# Altium footprint library PcbCorrect(25_12_2025).PcbLib: 27 footprints (part 2 of 2)
Each footprint in its own frame and in the unit in brackets; x right, y up, seen from the top. Pads: shape width x height; smd on the part's side, far side on the other; paste and mask are expansions set on the pad; w line width, h text height; cw(c..) or ccw(c..) is an arc to the next point about the centre after c.
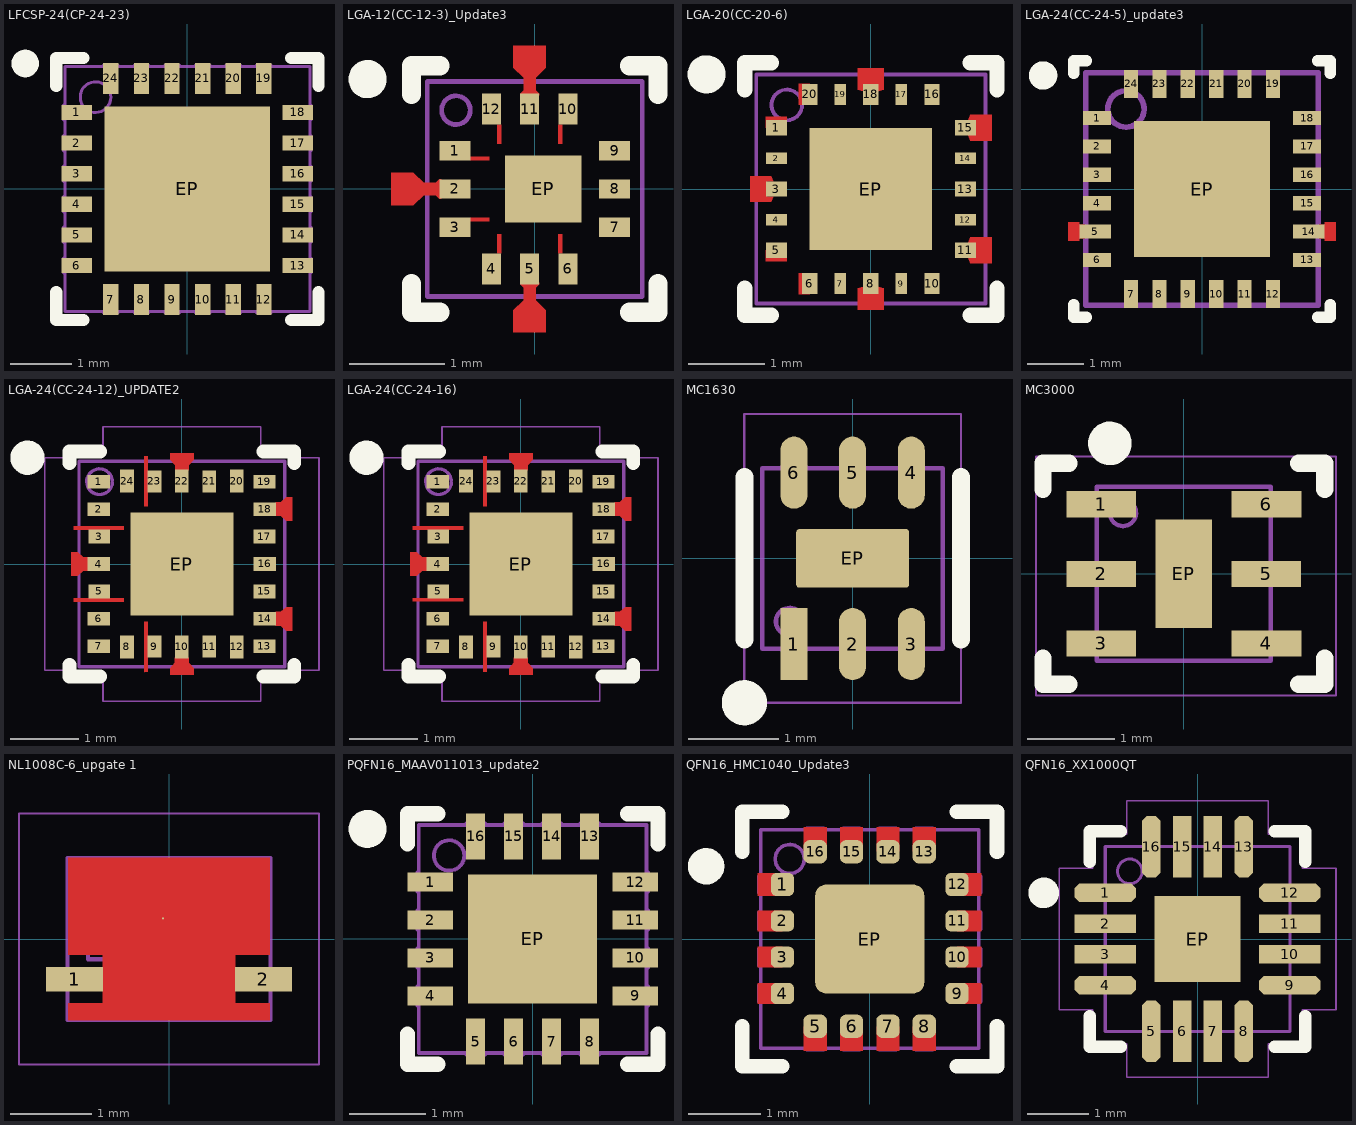
[diagram p1: the footprints below, top view; thin cyan lines are the x and y axes]

## LFCSP-24(CP-24-23) [mm] "QFN, 24-Leads, Body 4x4mm, Pitch 0.50mm, Thermal Pad 2.70x2.70mm. Compliant to JEDEC standards MO-220-WGGD-6"
height 0.75
pads (25):
  rect 0.5x0.25 smd mask+0.05: 1(-1.805,1.25) 2(-1.805,0.75) 3(-1.805,0.25) 4(-1.805,-0.25) 5(-1.805,-0.75) 6(-1.805,-1.25) 13(1.805,-1.25) 14(1.805,-0.75) 15(1.805,-0.25) 16(1.805,0.25) 17(1.805,0.75) 18(1.805,1.25)
  rect 0.25x0.5 smd mask+0.05: 7(-1.25,-1.805) 8(-0.75,-1.805) 9(-0.25,-1.805) 10(0.25,-1.805) 11(0.75,-1.805) 12(1.25,-1.805) 19(1.25,1.805) 20(0.75,1.805) 21(0.25,1.805) 22(-0.25,1.805) 23(-0.75,1.805) 24(-1.25,1.805)
  rect 2.7x2.7 smd paste-5 mask+0.03: EP(0,0)
Top Overlay:
  circle w0.25: c-2.65,2.05 r0.1
  lines w0.2: -2.14,-1.686 -2.14,-2.141 -1.695,-2.141 ; -2.14,1.686 -2.14,2.141 -1.695,2.141 ; 1.695,-2.141 2.14,-2.141 2.14,-1.686 ; 1.695,2.141 2.14,2.141 2.14,1.686
Top Paste:
  rectangle: -0.6,0.1 -0.1,0.6
  rectangle: 0.1,0.1 0.6,0.6
  rectangle: -0.6,-0.6 -0.1,-0.1
  rectangle: 0.1,-0.6 0.6,-0.1
  rectangle: -0.6,0.8 -0.1,1.3
  rectangle: 0.1,0.8 0.6,1.3
  rectangle: -0.6,-1.3 -0.1,-0.8
  rectangle: 0.1,-1.3 0.6,-0.8
  rectangle: 0.8,0.1 1.3,0.6
  rectangle: 0.8,-0.6 1.3,-0.1
  rectangle: 0.8,0.8 1.3,1.3
  rectangle: 0.8,-1.3 1.3,-0.8
  rectangle: -1.3,0.1 -0.8,0.6
  rectangle: -1.3,-0.6 -0.8,-0.1
  rectangle: -1.3,0.8 -0.8,1.3
  rectangle: -1.3,-1.3 -0.8,-0.8
  region: -1.125,-2.02 -1.375,-2.02 -1.375,-2.105 -1.125,-2.105
  region: -0.625,-2.02 -0.875,-2.02 -0.875,-2.105 -0.625,-2.105
  region: -0.125,-2.02 -0.375,-2.02 -0.375,-2.105 -0.125,-2.105
  region: 0.375,-2.01 0.125,-2.01 0.125,-2.105 0.375,-2.105
  region: 0.875,-2.01 0.625,-2.01 0.625,-2.105 0.875,-2.105
  region: 1.375,-2.01 1.125,-2.01 1.125,-2.105 1.375,-2.105
  region: 2.02,-1.125 2.02,-1.375 2.105,-1.375 2.105,-1.125
  region: 2.055,-0.625 2.055,-0.875 2.105,-0.875 2.105,-0.625
  region: 2.01,-0.125 2.01,-0.375 2.105,-0.375 2.105,-0.125
  region: 2.02,0.375 2.02,0.125 2.105,0.125 2.105,0.375
  region: 2.01,0.875 2.01,0.625 2.105,0.625 2.105,0.875
  region: 2.02,1.375 2.02,1.125 2.105,1.125 2.105,1.375
  region: 1.125,2.02 1.375,2.02 1.375,2.105 1.125,2.105
  region: 0.625,2.02 0.875,2.02 0.875,2.105 0.625,2.105
  region: 0.125,2.02 0.375,2.02 0.375,2.105 0.125,2.105
  region: -0.375,2.02 -0.125,2.02 -0.125,2.105 -0.375,2.105
  region: -0.875,2.02 -0.625,2.02 -0.625,2.105 -0.875,2.105
  region: -1.375,2.02 -1.125,2.02 -1.125,2.105 -1.375,2.105
  region: -2.02,1.125 -2.02,1.375 -2.105,1.375 -2.105,1.125
  region: -2.01,0.625 -2.01,0.875 -2.105,0.875 -2.105,0.625
  region: -2.01,0.125 -2.01,0.375 -2.105,0.375 -2.105,0.125
  region: -2.02,-0.375 -2.02,-0.125 -2.105,-0.125 -2.105,-0.375
  region: -2.01,-0.875 -2.01,-0.625 -2.105,-0.625 -2.105,-0.875
  region: -2.02,-1.375 -2.02,-1.125 -2.105,-1.125 -2.105,-1.375
Top Solder:
  region: -2.104,0.575 -2.104,0.925 -2.15,0.925 -2.15,0.575
  region: -2.104,1.075 -2.104,1.425 -2.15,1.425 -2.15,1.075
  region: -2.104,0.075 -2.104,0.425 -2.15,0.425 -2.15,0.075
  region: -2.104,-0.425 -2.104,-0.075 -2.15,-0.075 -2.15,-0.425
  region: -2.104,-0.925 -2.104,-0.575 -2.15,-0.575 -2.15,-0.925
  region: 0.575,2.104 0.925,2.104 0.925,2.15 0.575,2.15
  region: 1.075,2.104 1.425,2.104 1.425,2.15 1.075,2.15
  region: 0.075,2.104 0.425,2.104 0.425,2.15 0.075,2.15
  region: -0.425,2.104 -0.075,2.104 -0.075,2.15 -0.425,2.15
  region: -0.925,2.104 -0.575,2.104 -0.575,2.15 -0.925,2.15
  region: 2.104,-0.575 2.104,-0.925 2.149,-0.925 2.15,-0.575
  region: 2.104,-1.075 2.104,-1.425 2.149,-1.425 2.15,-1.075
  region: 2.104,-0.075 2.104,-0.425 2.15,-0.425 2.15,-0.075
  region: 2.104,0.425 2.104,0.075 2.15,0.075 2.15,0.425
  region: 2.104,0.925 2.104,0.575 2.15,0.575 2.15,0.925
  region: -0.575,-2.104 -0.925,-2.104 -0.925,-2.15 -0.575,-2.15
  region: -1.075,-2.104 -1.425,-2.104 -1.425,-2.15 -1.075,-2.15
  region: -0.075,-2.104 -0.425,-2.104 -0.425,-2.15 -0.075,-2.15
  region: 0.425,-2.104 0.075,-2.104 0.075,-2.15 0.425,-2.15
  region: 0.925,-2.104 0.575,-2.104 0.575,-2.15 0.925,-2.15
  region: 1.425,-2.104 1.075,-2.104 1.075,-2.15 1.425,-2.15
  region: -2.104,-1.425 -2.104,-1.075 -2.15,-1.075 -2.15,-1.425
  region: -1.425,2.104 -1.075,2.104 -1.075,2.15 -1.425,2.15
  region: 2.104,1.425 2.104,1.075 2.15,1.075 2.15,1.425
Top Assembly:
  circle w0.05: c-1.5,1.5 r0.25
  lines w0.05: -2,-1.375 -2.02,-1.375 -2.02,-1.125 -2,-1.125 ; -2,-0.875 -2.02,-0.875 -2.02,-0.625 -2,-0.625 ; -2,-0.375 -2.02,-0.375 -2.02,-0.125 -2,-0.125 ; -2,0.125 -2.02,0.125 -2.02,0.375 -2,0.375 ; -2,0.625 -2.02,0.625 -2.02,0.875 -2,0.875 ; -2,1.125 -2.02,1.125 -2.02,1.375 -2,1.375 ; -1.375,-2 -1.375,-2.02 -1.125,-2.02 -1.125,-2 ; -1.375,2 -1.375,2.02 -1.125,2.02 -1.125,2 ; -0.875,-2 -0.875,-2.02 -0.625,-2.02 -0.625,-2 ; -0.875,2 -0.875,2.02 -0.625,2.02 -0.625,2 ; -0.375,-2 -0.375,-2.02 -0.125,-2.02 -0.125,-2 ; -0.375,2 -0.375,2.02 -0.125,2.02 -0.125,2 ; 0.125,-2 0.125,-2.02 0.375,-2.02 0.375,-2 ; 0.125,2 0.125,2.02 0.375,2.02 0.375,2 ; 0.625,-2 0.625,-2.02 0.875,-2.02 0.875,-2 ; 0.625,2 0.625,2.02 0.875,2.02 0.875,2 ; 1.125,-2 1.125,-2.02 1.375,-2.02 1.375,-2 ; 1.125,2 1.125,2.02 1.375,2.02 1.375,2 ; 2,-1.375 2.02,-1.375 2.02,-1.125 2,-1.125 ; 2,-0.875 2.02,-0.875 2.02,-0.625 2,-0.625 ; 2,-0.375 2.02,-0.375 2.02,-0.125 2,-0.125 ; 2,0.125 2.02,0.125 2.02,0.375 2,0.375 ; 2,0.625 2.02,0.625 2.02,0.875 2,0.875 ; 2,1.125 2.02,1.125 2.02,1.375 2,1.375 ; -2,-2 -2,2 2,2 2,-2 -2,-2
  text ".Designator" at -4.511,-0.453 h2
3D body "CP-24-23(LFCSP24).x_t": height 0.8, standoff 0, extent -2.02,-2.02 2.02,2.02

## LGA-12(CC-12-3)_Update3 [mm] "LGA, 12-Leads, Body 2.25x2.25mm, Pitch 0.40mm, Thermal Pad 0.7x0.8mm"
height 0.75
pads (13):
  rect 0.325x0.2 smd paste+0.02 mask+0.04: 1(-0.837,0.4) 2(-0.837,0) 3(-0.837,-0.4) 7(0.837,-0.4) 8(0.837,0) 9(0.837,0.4)
  rect 0.2x0.325 smd paste+0.02 mask+0.04: 4(-0.453,-0.837) 5(-0.053,-0.837) 6(0.347,-0.837) 10(0.347,0.837) 11(-0.053,0.837) 12(-0.453,0.837)
  rect 0.8x0.7 smd paste-5 mask+0.07: EP(0.09,0)
Top Layer:
  region: -1.036,0 -1.036,-0.063 -1.163,-0.063 -1.163,0
  region: -1.036,0 -1.036,0.063 -1.163,0.063 -1.163,0
  region: -1,0.1 -1.036,0.063 -1.163,0.063 -1.163,-0.063 -1.036,-0.063 -1,-0.1 -0.981,-0.1 -0.981,0.1
  region: -1.163,0.063 -1.27,0.17 -1.5,0.17 -1.5,-0.17 -1.27,-0.17 -1.163,-0.063
  region: 0.047,0.999 0.01,1.036 0.01,1.163 -0.116,1.163 -0.116,1.036 -0.153,0.999 -0.153,0.98 0.047,0.98
  region: 0.01,1.163 0.117,1.27 0.117,1.5 -0.223,1.5 -0.223,1.269 -0.116,1.163
  region: -0.153,-1 -0.116,-1.036 -0.116,-1.163 0.01,-1.163 0.01,-1.036 0.047,-1 0.047,-0.981 -0.153,-0.981
  region: -0.116,-1.163 -0.223,-1.27 -0.223,-1.5 0.117,-1.5 0.117,-1.27 0.01,-1.163
  pour cut-out: -0.393,-0.675 -0.353,-0.675 -0.353,-0.475 -0.393,-0.475
  pour cut-out: 0.287,-0.675 0.247,-0.675 0.247,-0.475 0.287,-0.475
  pour cut-out: -0.675,-0.34 -0.675,-0.3 -0.475,-0.3 -0.475,-0.34
  pour cut-out: -0.675,0.34 -0.675,0.3 -0.475,0.3 -0.475,0.34
  pour cut-out: -0.393,0.675 -0.353,0.675 -0.353,0.475 -0.393,0.475
  pour cut-out: 0.287,0.675 0.247,0.675 0.247,0.475 0.287,0.475
Top Overlay:
  circle w0.2: c-1.75,1.15 r0.1
  lines w0.2: -1.29,-0.99 -1.29,-1.29 -0.99,-1.29 ; -1.29,0.99 -1.29,1.29 -0.99,1.29 ; 0.99,-1.29 1.29,-1.29 1.29,-0.99 ; 0.99,1.29 1.29,1.29 1.29,0.99
Top Paste:
  region: 0.495,0.09 0.185,0.09 0.185,0.35 0.495,0.35
  region: 0.495,-0.09 0.185,-0.09 0.185,-0.35 0.495,-0.35
  region: -0.315,0.09 -0.005,0.09 -0.005,0.35 -0.315,0.35
  region: -0.31,-0.09 0,-0.09 0,-0.35 -0.31,-0.35
Top Solder:
  region: -0.313,1.036 -0.313,1.27 -0.593,1.27 -0.593,1.036
  region: 0.087,1.036 0.087,1.27 -0.193,1.27 -0.193,1.036
  region: 0.487,1.036 0.487,1.27 0.207,1.27 0.207,1.036
  region: 1.036,0.26 1.27,0.26 1.27,0.54 1.036,0.54
  region: 1.036,-0.14 1.27,-0.14 1.27,0.14 1.036,0.14
  region: 1.036,-0.54 1.27,-0.54 1.27,-0.26 1.036,-0.26
  region: 0.207,-1.036 0.207,-1.27 0.487,-1.27 0.487,-1.036
  region: -0.193,-1.036 -0.193,-1.27 0.087,-1.27 0.087,-1.036
  region: -0.593,-1.036 -0.593,-1.27 -0.313,-1.27 -0.313,-1.036
  region: -1.036,-0.26 -1.27,-0.26 -1.27,-0.54 -1.036,-0.54
  region: -1.036,0.14 -1.27,0.14 -1.27,-0.14 -1.036,-0.14
  region: -1.036,0.54 -1.27,0.54 -1.27,0.26 -1.036,0.26
Top Assembly:
  circle w0.05: c-0.825,0.825 r0.15
  lines w0.05: -1.125,-1.125 -1.125,1.125 1.125,1.125 1.125,-1.125 -1.125,-1.125
  text ".Designator" at -2.815,-0.283 h1.25
3D body "CC-12-3(LGA12).x_t": height 0.76, standoff 0, extent -1.125,-1.125 1.125,1.125

## LGA-20(CC-20-6) [mm] "LGA, 20-Leads, Body 3x3mm, Pitch 0.40mm, Thermal Pad 1.50x1.50mm"
height 0.96
pads (21):
  rect 0.275x0.2 smd paste+0.01 mask+0.05: 1(-1.237,0.8) 3(-1.237,0) 5(-1.237,-0.8) 11(1.237,-0.8) 13(1.237,0) 15(1.237,0.8)
  rect 0.275x0.15 smd paste+0.01 mask+0.05: 2(-1.237,0.4) 4(-1.237,-0.4) 12(1.237,-0.4) 14(1.237,0.4)
  rect 0.2x0.275 smd paste+0.01 mask+0.05: 6(-0.8,-1.237) 8(0,-1.237) 10(0.8,-1.237) 16(0.8,1.237) 18(0,1.237) 20(-0.8,1.237)
  rect 0.15x0.275 smd paste+0.01 mask+0.05: 7(-0.4,-1.237) 9(0.4,-1.237) 17(0.4,1.237) 19(-0.4,1.237)
  rect 1.6x1.6 smd paste-4 mask+0.05: EP(0,0)
Top Layer:
  region: 1.58,0.689 1.354,0.689 1.354,0.921 1.58,0.921
  region: 1.58,-0.911 1.354,-0.911 1.354,-0.679 1.58,-0.679
  region: -0.111,-1.58 -0.111,-1.354 0.121,-1.354 0.121,-1.58
  region: -1.58,0.111 -1.354,0.111 -1.354,-0.121 -1.58,-0.121
  region: -0.099,1.58 -0.099,1.277 -0.17,1.301 -0.17,1.58
  region: 0.111,1.58 0.111,1.354 -0.121,1.354 -0.121,1.58
  region: 0.099,1.58 0.099,1.277 0.17,1.301 0.17,1.58
  region: 1.58,0.899 1.277,0.899 1.301,0.97 1.58,0.97
  region: 1.58,0.701 1.277,0.701 1.301,0.63 1.58,0.63
  region: 1.58,-0.701 1.277,-0.701 1.301,-0.63 1.58,-0.63
  region: 1.58,-0.899 1.277,-0.899 1.301,-0.97 1.58,-0.97
  region: 0.099,-1.58 0.099,-1.277 0.17,-1.301 0.17,-1.58
  region: -0.099,-1.58 -0.099,-1.277 -0.17,-1.301 -0.17,-1.58
  region: -1.58,-0.099 -1.277,-0.099 -1.301,-0.17 -1.58,-0.17
  region: -1.58,0.099 -1.277,0.099 -1.301,0.17 -1.58,0.17
  region: -1.1,0.8 -1.375,0.8 -1.375,0.947 -1.1,0.947
  region: -1.099,-0.8 -1.375,-0.8 -1.374,-0.947 -1.1,-0.947
  region: -0.8,-1.375 -0.8,-1.099 -0.947,-1.1 -0.947,-1.374
  region: -0.8,1.099 -0.8,1.375 -0.947,1.374 -0.947,1.1
Top Overlay:
  circle w0.25: c-2.15,1.5 r0.125
  lines w0.2: -1.65,-1.3 -1.65,-1.65 -1.3,-1.65 ; -1.65,1.3 -1.65,1.65 -1.3,1.65 ; 1.3,-1.65 1.65,-1.65 1.65,-1.3 ; 1.3,1.65 1.65,1.65 1.65,1.3
Top Paste:
  drawing of 90 lines, arcs and shapes, not listed
Top Solder:
  region: -1.354,0.525 -1.354,0.275 -1.65,0.275 -1.65,0.525
  region: -1.354,-0.65 -1.354,-0.95 -1.65,-0.95 -1.65,-0.65
  region: -1.354,-0.275 -1.354,-0.525 -1.65,-0.525 -1.65,-0.275
  region: -0.95,-1.354 -0.65,-1.354 -0.65,-1.65 -0.95,-1.65
  region: -0.525,-1.354 -0.275,-1.354 -0.275,-1.65 -0.525,-1.65
  region: -0.15,-1.354 0.15,-1.354 0.15,-1.65 -0.15,-1.65
  region: 0.275,-1.354 0.525,-1.354 0.525,-1.65 0.275,-1.65
  region: 0.65,-1.354 0.95,-1.354 0.95,-1.65 0.65,-1.65
  region: -1.354,0.95 -1.354,0.65 -1.65,0.65 -1.65,0.95
  region: -1.65,0.95 -1.65,1.15 -1.35,1.15 -1.35,0.95
  region: -1.65,-0.95 -1.65,-1.15 -1.35,-1.15 -1.35,-0.95
  region: -0.932,-1.65 -1.132,-1.65 -1.132,-1.35 -0.932,-1.35
  region: -1.354,0.15 -1.354,-0.15 -1.65,-0.15 -1.65,0.15
  region: 1.354,-0.15 1.354,0.15 1.65,0.15 1.65,-0.15
  region: 1.354,-0.95 1.354,-0.65 1.65,-0.65 1.65,-0.95
  region: 1.354,-0.525 1.354,-0.275 1.65,-0.275 1.65,-0.525
  region: 1.354,0.275 1.354,0.525 1.65,0.525 1.65,0.275
  region: 1.354,0.65 1.354,0.95 1.65,0.95 1.65,0.65
  region: 0.15,1.354 -0.15,1.354 -0.15,1.65 0.15,1.65
  region: 0.95,1.354 0.65,1.354 0.65,1.65 0.95,1.65
  region: -0.65,1.354 -0.95,1.354 -0.95,1.65 -0.65,1.65
  region: -0.932,1.65 -1.132,1.65 -1.132,1.35 -0.932,1.35
  region: 0.525,1.354 0.275,1.354 0.275,1.65 0.525,1.65
  region: -0.275,1.354 -0.525,1.354 -0.525,1.65 -0.275,1.65
Top Assembly:
  circle w0.05: c-1.1,1.1 r0.2
  lines w0.05: -1.5,-1.5 1.5,-1.5 1.5,1.5 -1.5,1.5 -1.5,-1.5
  text ".Designator" at -4.511,-0.453 h2
3D body "CC-20-6(LGA20).x_t": height 0.86, standoff -0.01, extent -1.5,-1.5 1.5,1.5

## LGA-24(CC-24-5)_update3 [mm] "LGA, 24-Leads, Body 4x4mm, Pitch 0.50mm, Thermal Pad 2.50x2.50mm"
height 0.75
pads (25):
  rect 0.5x0.25 smd mask+0.05: 1(-1.85,1.25) 2(-1.85,0.75) 3(-1.85,0.25) 4(-1.85,-0.25) 6(-1.85,-1.25) 13(1.85,-1.25) 15(1.85,-0.25) 16(1.85,0.25) 17(1.85,0.75) 18(1.85,1.25)
  rect 0.56x0.25 smd paste-5 mask+0.05: 5(-1.88,-0.75) 14(1.88,-0.75)
  rect 0.25x0.5 smd mask+0.05: 7(-1.25,-1.85) 8(-0.75,-1.85) 9(-0.25,-1.85) 10(0.25,-1.85) 11(0.75,-1.85) 12(1.25,-1.85) 19(1.25,1.85) 20(0.75,1.85) 21(0.25,1.85) 22(-0.25,1.85) 23(-0.75,1.85) 24(-1.25,1.85)
  rect 2.4x2.4 smd paste-5: EP(0,0)
Top Layer:
  region: 2.18,-0.625 2.055,-0.625 2.055,-0.875 2.18,-0.875
  rectangle: -2.18,-0.875 -2.055,-0.625
  region: 2.36,-0.58 2.16,-0.58 2.16,-0.92 2.36,-0.92
  rectangle: -2.36,-0.92 -2.16,-0.58
Top Overlay:
  circle w0.25: c-2.8,2 r0.125
  lines w0.2: -2.26,-2.035 -2.26,-2.26 -2.035,-2.26 ; -2.26,2.035 -2.26,2.26 -2.035,2.26 ; 2.035,-2.26 2.26,-2.26 2.26,-2.035 ; 2.035,2.26 2.26,2.26 2.26,2.035
Top Paste:
  region: -1.375,2.2 -1.375,2.05 -1.125,2.05 -1.125,2.2
  region: -0.875,2.2 -0.875,2.05 -0.625,2.05 -0.625,2.2
  region: -0.375,2.2 -0.375,2.05 -0.125,2.05 -0.125,2.2
  region: 0.125,2.2 0.125,2.05 0.375,2.05 0.375,2.2
  region: 0.625,2.2 0.625,2.05 0.875,2.05 0.875,2.2
  region: 1.125,2.2 1.125,2.05 1.375,2.05 1.375,2.2
  region: 2.2,1.375 2.05,1.375 2.05,1.125 2.2,1.125
  region: 2.2,0.875 2.05,0.875 2.05,0.625 2.2,0.625
  region: 2.2,0.375 2.05,0.375 2.05,0.125 2.2,0.125
  region: 2.2,-0.125 2.05,-0.125 2.05,-0.375 2.2,-0.375
  region: 2.23,-0.625 2.08,-0.625 2.08,-0.875 2.23,-0.875
  region: 2.2,-1.125 2.05,-1.125 2.05,-1.375 2.2,-1.375
  region: 1.375,-2.2 1.375,-2.05 1.125,-2.05 1.125,-2.2
  region: 0.875,-2.2 0.875,-2.05 0.625,-2.05 0.625,-2.2
  region: 0.375,-2.2 0.375,-2.05 0.125,-2.05 0.125,-2.2
  region: -0.125,-2.2 -0.125,-2.05 -0.375,-2.05 -0.375,-2.2
  region: -0.125,-2.2 -0.125,-2.05 -0.375,-2.05 -0.375,-2.2
  region: -0.625,-2.2 -0.625,-2.05 -0.875,-2.05 -0.875,-2.2
  region: -1.125,-2.2 -1.125,-2.05 -1.375,-2.05 -1.375,-2.2
  rectangle: -2.2,-1.375 -2.05,-1.125
  rectangle: -2.23,-0.875 -2.08,-0.625
  rectangle: -2.2,-0.375 -2.05,-0.125
  rectangle: -2.2,0.125 -2.05,0.375
  rectangle: -2.2,0.625 -2.05,0.875
  rectangle: -2.2,1.125 -2.05,1.375
  rectangle: 0.5,0.5 1.1,1.1
  rectangle: -0.3,0.5 0.3,1.1
  rectangle: 0.5,-1.1 1.1,-0.5
  rectangle: -0.3,-1.1 0.3,-0.5
  rectangle: 0.5,-0.3 1.1,0.3
  rectangle: -0.3,-0.3 0.3,0.3
  region: -0.5,1.1 -1.1,1.1 -1.1,0.5 -0.5,0.5
  region: -0.5,-0.5 -1.1,-0.5 -1.1,-1.1 -0.5,-1.1
  region: -0.5,0.3 -1.1,0.3 -1.1,-0.3 -0.5,-0.3
  rectangle: -2.1,-0.375 -1.601,-0.126
  rectangle: -2.1,-0.875 -1.601,-0.626
  region: 2.1,-0.626 1.601,-0.626 1.601,-0.875 2.1,-0.875
Top Solder:
  region: -1.425,2.25 -1.425,2.114 -1.075,2.114 -1.075,2.25
  region: -0.925,2.25 -0.925,2.114 -0.575,2.114 -0.575,2.25
  region: -0.425,2.25 -0.425,2.114 -0.075,2.114 -0.075,2.25
  region: 0.075,2.25 0.075,2.114 0.425,2.114 0.425,2.25
  region: 0.575,2.25 0.575,2.114 0.925,2.114 0.925,2.25
  region: 1.075,2.25 1.075,2.114 1.425,2.114 1.425,2.25
  region: 2.25,1.425 2.114,1.425 2.114,1.075 2.25,1.075
  region: 2.25,0.925 2.114,0.925 2.114,0.575 2.25,0.575
  region: 2.25,0.425 2.114,0.425 2.114,0.075 2.25,0.075
  region: 2.25,-0.075 2.114,-0.075 2.114,-0.425 2.25,-0.425
  region: 2.28,-0.575 2.144,-0.575 2.144,-0.925 2.28,-0.925
  region: 2.25,-1.075 2.114,-1.075 2.114,-1.425 2.25,-1.425
  region: 1.425,-2.25 1.425,-2.114 1.075,-2.114 1.075,-2.25
  region: 0.925,-2.25 0.925,-2.114 0.575,-2.114 0.575,-2.25
  region: 0.425,-2.25 0.425,-2.114 0.075,-2.114 0.075,-2.25
  region: -0.075,-2.25 -0.075,-2.114 -0.425,-2.114 -0.425,-2.25
  region: -0.575,-2.25 -0.575,-2.114 -0.925,-2.114 -0.925,-2.25
  region: -1.075,-2.25 -1.075,-2.114 -1.425,-2.114 -1.425,-2.25
  rectangle: -2.25,-1.425 -2.114,-1.075
  rectangle: -2.28,-0.925 -2.144,-0.575
  rectangle: -2.25,-0.425 -2.114,-0.075
  rectangle: -2.25,0.075 -2.114,0.425
  rectangle: -2.25,0.575 -2.114,0.925
  rectangle: -2.25,1.075 -2.114,1.425
Top Assembly:
  lines w0.1: -1.021,1.436 ccw(c-1.34,1.41) -1.02,1.404 ; -2.05,-2.05 2.05,-2.05 2.05,2.05 -2.05,2.05 -2.05,-2.05
  text ".Designator" at -4.511,-0.453 h2
3D body "CC-24-5(LGA24).x_t": height 0.75, standoff -0.01, extent -2,-2 2,2

## LGA-24(CC-24-12)_UPDATE2 [mm] "LGA, 24-Leads, Body 3x3mm, Pitch 0.40mm, Thermal Pad 1.60x1.50mm"
height 0.738
pads (25):
  rect 0.33x0.2 smd mask+0.05: 1(-1.21,1.2) 2(-1.21,0.8) 4(-1.21,0) 6(-1.21,-0.8) 7(-1.21,-1.2) 14(1.21,-0.8) 16(1.21,0) 18(1.21,0.8)
  rect 0.32x0.2 smd mask+0.05: 3(-1.205,0.4) 5(-1.205,-0.4) 13(1.205,-1.2) 15(1.205,-0.4) 17(1.205,0.4) 19(1.205,1.2)
  rect 0.2x0.33 smd mask+0.05: 8(-0.8,-1.21) 10(0,-1.21) 12(0.8,-1.21) 20(0.8,1.21) 22(0,1.21) 24(-0.8,1.21)
  rect 0.2x0.32 smd mask+0.05: 9(-0.4,-1.205) 11(0.4,-1.205) 21(0.4,1.205) 23(-0.4,1.205)
  rect 1.5x1.5 smd paste-4 mask+0.1: EP(0,0)
Top Layer:
  region: -1.519,0.17 -1.439,0.1 -1.37,0.1 -1.37,-0.1 -1.439,-0.1 -1.519,-0.17 -1.613,-0.17 -1.613,0.17
  region: 0.17,1.519 0.1,1.439 0.1,1.37 -0.1,1.37 -0.1,1.439 -0.17,1.519 -0.17,1.613 0.17,1.613
  region: 1.519,0.63 1.439,0.7 1.37,0.7 1.37,0.9 1.439,0.9 1.519,0.97 1.613,0.97 1.613,0.63
  region: 1.519,-0.97 1.439,-0.9 1.37,-0.9 1.37,-0.7 1.439,-0.7 1.519,-0.63 1.613,-0.63 1.613,-0.97
  region: -0.17,-1.519 -0.1,-1.439 -0.1,-1.37 0.1,-1.37 0.1,-1.439 0.17,-1.519 0.17,-1.613 -0.17,-1.613
  region: -0.5,-0.845 -0.547,-0.845 -0.547,-1.575 -0.5,-1.575
  region: -0.845,-0.5 -0.845,-0.547 -1.575,-0.547 -1.575,-0.5
  region: -0.845,0.5 -0.845,0.547 -1.575,0.547 -1.575,0.5
  region: -0.5,0.845 -0.547,0.845 -0.547,1.575 -0.5,1.575
Top Overlay:
  circle w0.25: c-2.25,1.55 r0.125
  lines w0.2: -1.64,-1.474 -1.64,-1.64 -1.19,-1.64 ; -1.64,1.474 -1.64,1.64 -1.19,1.64 ; 1.19,-1.64 1.64,-1.64 1.64,-1.474 ; 1.19,1.64 1.64,1.64 1.64,1.474
Top Paste:
  rectangle: -0.7,0.1 -0.1,0.7
  rectangle: 0.1,0.1 0.7,0.7
  rectangle: -0.7,-0.7 -0.1,-0.1
  rectangle: 0.1,-0.7 0.7,-0.1
Top Assembly:
  lines w0.05: -1.014,1.221 ccw(c-1.2,1.2) -1.013,1.19 ; -1.5,-1.5 -1.5,1.5 1.5,1.5 1.5,-1.5 -1.5,-1.5
  text ".Designator" at -4.511,-0.453 h2
Top Courtyard:
  lines w0.025: -2,-1.55 -2,1.55 -1.7,1.55 -1.7,1.7 -1.15,1.7 -1.15,2 1.15,2 1.15,1.7 1.7,1.7 1.7,1.55 2,1.55 2,-1.55 1.7,-1.55 1.7,-1.7 1.15,-1.7 1.15,-2 -1.15,-2 -1.15,-1.7 -1.7,-1.7 -1.7,-1.55 -2,-1.55
3D body "CC-24-12(LGA24).x_t": height 0.74, standoff -0.01, extent -1.5,-1.5 1.5,1.5

## LGA-24(CC-24-16) [mm] "LGA, 24-Leads, Body 3x3mm, Pitch 0.40mm, Thermal Pad 1.50x1.50mm"
height 0.696
pads (25):
  rect 0.33x0.2 smd mask+0.05: 1(-1.21,1.2) 2(-1.21,0.8) 4(-1.21,0) 6(-1.21,-0.8) 7(-1.21,-1.2) 14(1.21,-0.8) 16(1.21,0) 18(1.21,0.8)
  rect 0.32x0.2 smd mask+0.05: 3(-1.205,0.4) 5(-1.205,-0.4) 13(1.205,-1.2) 15(1.205,-0.4) 17(1.205,0.4) 19(1.205,1.2)
  rect 0.2x0.33 smd mask+0.05: 8(-0.8,-1.21) 10(0,-1.21) 12(0.8,-1.21) 20(0.8,1.21) 22(0,1.21) 24(-0.8,1.21)
  rect 0.2x0.32 smd mask+0.05: 9(-0.4,-1.205) 11(0.4,-1.205) 21(0.4,1.205) 23(-0.4,1.205)
  rect 1.5x1.5 smd paste-4 mask+0.1: EP(0,0)
Top Layer:
  region: -0.17,-1.519 -0.1,-1.439 -0.1,-1.37 0.1,-1.37 0.1,-1.439 0.17,-1.519 0.17,-1.613 -0.17,-1.613
  region: 1.519,-0.97 1.439,-0.9 1.37,-0.9 1.37,-0.7 1.439,-0.7 1.519,-0.63 1.613,-0.63 1.613,-0.97
  region: 1.519,0.63 1.439,0.7 1.37,0.7 1.37,0.9 1.439,0.9 1.519,0.97 1.613,0.97 1.613,0.63
  region: 0.17,1.519 0.1,1.439 0.1,1.37 -0.1,1.37 -0.1,1.439 -0.17,1.519 -0.17,1.613 0.17,1.613
  region: -1.519,0.17 -1.439,0.1 -1.37,0.1 -1.37,-0.1 -1.439,-0.1 -1.519,-0.17 -1.613,-0.17 -1.613,0.17
  region: -0.84,-0.5 -1.575,-0.5 -1.575,-0.542 -1.422,-0.542 -0.84,-0.542
  region: -0.84,0.5 -1.575,0.5 -1.575,0.549 -0.84,0.549
  region: -0.5,0.84 -0.5,1.575 -0.549,1.575 -0.549,0.84
  region: -0.5,-0.84 -0.5,-1.575 -0.549,-1.575 -0.549,-0.84
Top Overlay:
  circle w0.25: c-2.25,1.55 r0.125
  lines w0.2: -1.64,-1.474 -1.64,-1.64 -1.19,-1.64 ; -1.64,1.474 -1.64,1.64 -1.19,1.64 ; 1.19,-1.64 1.64,-1.64 1.64,-1.474 ; 1.19,1.64 1.64,1.64 1.64,1.474
Top Paste:
  rectangle: 0.1,-0.7 0.7,-0.1
  rectangle: -0.7,-0.7 -0.1,-0.1
  rectangle: 0.1,0.1 0.7,0.7
  rectangle: -0.7,0.1 -0.1,0.7
  region: -1.375,0.9 -1.375,0.7 -1.475,0.7 -1.475,0.9
  region: -1.375,1.3 -1.375,1.1 -1.475,1.1 -1.475,1.3
  region: -1.365,0.5 -1.365,0.3 -1.465,0.3 -1.465,0.5
  region: -1.37,0.1 -1.37,-0.1 -1.47,-0.1 -1.47,0.1
  region: -1.365,-0.3 -1.365,-0.5 -1.465,-0.5 -1.465,-0.3
  region: -1.375,-0.7 -1.375,-0.9 -1.475,-0.9 -1.475,-0.7
  region: -1.375,-1.1 -1.375,-1.3 -1.475,-1.3 -1.475,-1.1
  region: -0.9,-1.375 -0.7,-1.375 -0.7,-1.475 -0.9,-1.475
  region: -0.5,-1.365 -0.3,-1.365 -0.3,-1.465 -0.5,-1.465
  region: -0.1,-1.375 0.1,-1.375 0.1,-1.475 -0.1,-1.475
  region: 0.3,-1.365 0.5,-1.365 0.5,-1.465 0.3,-1.465
  region: 0.7,-1.375 0.9,-1.375 0.9,-1.475 0.7,-1.475
  region: 1.365,-1.3 1.365,-1.1 1.465,-1.1 1.465,-1.3
  region: 1.375,-0.9 1.375,-0.7 1.475,-0.7 1.475,-0.9
  region: 1.365,-0.5 1.365,-0.3 1.465,-0.3 1.465,-0.5
  region: 1.375,-0.1 1.375,0.1 1.475,0.1 1.475,-0.1
  region: 1.365,0.3 1.365,0.5 1.465,0.5 1.465,0.3
  region: 1.375,0.7 1.375,0.9 1.475,0.9 1.475,0.7
  region: 1.365,1.1 1.365,1.3 1.465,1.3 1.465,1.1
  region: 0.9,1.375 0.7,1.375 0.7,1.475 0.9,1.475
  region: 0.5,1.365 0.3,1.365 0.3,1.465 0.5,1.465
  region: 0.1,1.375 -0.1,1.375 -0.1,1.475 0.1,1.475
  region: -0.3,1.365 -0.5,1.365 -0.5,1.465 -0.3,1.465
  region: -0.7,1.375 -0.9,1.375 -0.9,1.475 -0.7,1.475
Top Solder:
  region: -0.55,-1.41 -0.55,-1.65 -0.25,-1.65 -0.25,-1.41
  region: -0.95,-1.415 -0.95,-1.65 -0.65,-1.65 -0.65,-1.415
  region: -1.415,-1.05 -1.65,-1.05 -1.65,-1.35 -1.415,-1.35
  region: -1.415,-0.65 -1.65,-0.65 -1.65,-0.95 -1.415,-0.95
  region: -1.415,1.35 -1.65,1.35 -1.65,1.05 -1.415,1.05
  region: -0.15,-1.424 -0.15,-1.65 0.15,-1.65 0.15,-1.424
  region: 0.25,-1.41 0.25,-1.65 0.55,-1.65 0.55,-1.41
  region: 0.65,-1.415 0.65,-1.65 0.95,-1.65 0.95,-1.415
  region: -1.424,0.15 -1.65,0.15 -1.65,-0.15 -1.424,-0.15
  region: -1.41,0.55 -1.65,0.55 -1.65,0.25 -1.41,0.25
  region: -1.41,-0.25 -1.65,-0.25 -1.65,-0.55 -1.41,-0.55
  region: -1.415,0.95 -1.65,0.95 -1.65,0.65 -1.415,0.65
  region: 1.424,0.15 1.65,0.15 1.65,-0.15 1.424,-0.15
  region: 1.41,0.55 1.65,0.55 1.65,0.25 1.41,0.25
  region: 1.41,-0.25 1.65,-0.25 1.65,-0.55 1.41,-0.55
  region: 1.415,0.95 1.65,0.95 1.65,0.65 1.415,0.65
  region: 1.415,-0.65 1.65,-0.65 1.65,-0.95 1.415,-0.95
  region: -0.15,1.424 -0.15,1.65 0.15,1.65 0.15,1.424
  region: -0.55,1.41 -0.55,1.65 -0.25,1.65 -0.25,1.41
  region: 0.25,1.41 0.25,1.65 0.55,1.65 0.55,1.41
  region: -0.95,1.415 -0.95,1.65 -0.65,1.65 -0.65,1.415
  region: 0.65,1.415 0.65,1.65 0.95,1.65 0.95,1.415
  region: 1.415,1.35 1.65,1.35 1.65,1.05 1.415,1.05
  region: 1.415,-1.05 1.65,-1.05 1.65,-1.35 1.415,-1.35
Top Assembly:
  lines w0.05: -1.014,1.221 ccw(c-1.2,1.2) -1.013,1.19 ; -1.5,-1.5 1.5,-1.5 1.5,1.5 -1.5,1.5 -1.5,-1.5
  text ".Designator" at -4.261,-0.353 h2
Top Courtyard:
  lines w0.025: -2,-1.55 -2,1.55 -1.7,1.55 -1.7,1.7 -1.15,1.7 -1.15,2 1.15,2 1.15,1.7 1.7,1.7 1.7,1.55 2,1.55 2,-1.55 1.7,-1.55 1.7,-1.7 1.15,-1.7 1.15,-2 -1.15,-2 -1.15,-1.7 -1.7,-1.7 -1.7,-1.55 -2,-1.55
3D body "CC-24-16(LGA24).x_t": height 0.7, standoff -0.01, extent -1.5,-1.5 1.5,1.5

## MC1630 [mm] "MC1630 Minicircuits case style"
height 0.8
pads (7):
  rect 0.3x0.8 smd paste+0 mask+0.05: 1(-0.65,-0.95)
  oval 0.3x0.8 smd paste+0 mask+0.05: 2(0,-0.95) 3(0.65,-0.95) 4(0.65,0.95) 5(0,0.95) 6(-0.65,0.95)
  rrect10% 1.25x0.65 smd mask+0.05: EP(0,0)
Top Overlay:
  circle w0.25: c-1.2,-1.6 r0.125
  lines w0.2: -1.2,-0.9 -1.2,0.9 ; 1.2,-0.9 1.2,0.9
Top Solder:
  rectangle: -1,-1.4 -0.85,-0.5
  region: 1,-0.5 0.65,-0.5 0.65,-1.4 1,-1.4
  region: 1,1.4 0.65,1.4 0.65,0.5 1,0.5
  rectangle: -1,0.5 -0.65,1.4
Top Assembly:
  circle w0.05: c-0.7,-0.7 r0.15
  lines w0.05: -0.775,-1 -0.775,-1.025 -0.525,-1.025 -0.525,-1 ; -0.775,1 -0.775,1.025 -0.525,1.025 -0.525,1 ; -0.125,-1 -0.125,-1.025 0.125,-1.025 0.125,-1 ; -0.125,1 -0.125,1.025 0.125,1.025 0.125,1 ; 0.525,-1 0.525,-1.025 0.775,-1.025 0.775,-1 ; 0.525,1 0.525,1.025 0.775,1.025 0.775,1 ; -1,-1 -1,1 1,1 1,-1 -1,-1
  text ".Designator" at -2.704,-0.271 h1.2
Top Courtyard:
  lines w0.025: -1.2,-1.6 -1.2,1.6 1.2,1.6 1.2,-1.6 -1.2,-1.6
3D body "MC1630_X_T.x_t": height 0.85, standoff 0, extent -1,-1.025 1,1.025

## MC3000 [mm] "Mini-Circuits MC3000 Case Style"
height 1
pads (7):
  rect 0.8x0.3 smd paste-0.023 mask+0.05: 1(-0.95,0.8) 2(-0.95,0) 3(-0.95,-0.8) 4(0.95,-0.8) 5(0.95,0) 6(0.95,0.8)
  rect 0.65x1.25 smd paste-0.045 mask+0.092: EP(0,0)
Top Overlay:
  circle w0.25: c-0.85,1.5 r0.125
  lines w0.2: -1.62,-0.97 -1.62,-1.27 -1.32,-1.27 ; -1.62,0.97 -1.62,1.27 -1.32,1.27 ; 1.32,-1.27 1.62,-1.27 1.62,-0.97 ; 1.32,1.27 1.62,1.27 1.62,0.97
Top Solder:
  rectangle: 0.5,0.47 1.4,0.6
  rectangle: -1.401,0.47 -0.501,0.6
  rectangle: -1.401,-0.6 -0.501,-0.47
  rectangle: 0.5,-0.6 1.4,-0.47
Top Assembly:
  lines w0.05: -0.55,0.718 ccw(c-0.7,0.7) -0.549,0.696 ; -1,-1 -1,0 -1,1 0,1 1,1 1,0 1,-1 0,-1 -1,-1
  text ".Designator" at -3.378,-0.339 h1.5
Top Courtyard:
  lines w0.025: -1.7,-1.4 -1.7,1.35 1.75,1.35 1.75,-1.4 -1.7,-1.4
3D body "MC3000.x_t": height 1.05, standoff 0, extent -1.02,-1 1.02,1

## NL1008C-6_upgate 1 [mm] "Mini-Circuits NL1008C-6 Case Style"
height 0.705
pads (3):
  rect 0.7x0.3 smd paste-0.02 mask+0: 1(-1.165,-0.495) 2(1.165,-0.495)
  round 0.025 smd paste-5 mask-5: 3(-0.075,0.255)
Top Layer:
  region: -1.245,-1.005 1.245,-1.005 1.245,-0.795 0.6,-0.795 0.6,-0.195 1.245,-0.195 1.245,1.005 -1.245,1.005 -1.245,-0.195 -0.6,-0.195 -0.6,-0.795 -1.245,-0.795
  pour cut-out: -0.6,-0.195 -0.6,-0.795 -0.815,-0.795 -0.815,-0.195
  pour cut-out: 0.6,-0.195 0.6,-0.795 0.815,-0.795 0.815,-0.195
Top Paste:
  region: -0.55,-0.8 -1.25,-0.8 -1.25,-1.02 -0.55,-1.02
  rectangle: 0.555,-1.02 1.25,-0.8
  rectangle: -0.35,0.45 0.35,0.95
  region: -0.55,0.95 -1.25,0.95 -1.25,0.45 -0.55,0.45
  rectangle: -0.35,-0.95 0.35,-0.45
  rectangle: -0.35,-0.25 0.35,0.25
  rectangle: 0.55,-0.15 1.25,0.25
  region: 1.25,0.95 0.55,0.95 0.55,0.45 1.25,0.45
  region: -0.55,0.25 -1.25,0.25 -1.25,-0.15 -0.55,-0.15
Top Solder:
  rectangle: 0.895,-0.645 1.395,-0.345
  rectangle: -1.345,-0.245 1.345,1.105
  rectangle: -0.695,-1.105 0.695,-0.195
  rectangle: -1.345,-1.105 -0.675,-0.745
  region: 1.345,-0.745 0.675,-0.745 0.675,-1.105 1.345,-1.105
  pour cut-out: -1.775,1.255 -1.775,-1.255 1.775,-1.255 1.775,1.255
Top Assembly:
  lines w0.05: -1.25,-1 1.25,-1 1.25,1 -1.25,1 -1.25,-1 ; -1,-0.25 -1,0.25 -0.3,0.25 -0.3,-0.25 -1,-0.25
  text ".Designator" at -1.752,-0.226 h1
Top Courtyard:
  lines w0.025: -1.85,-1.55 1.85,-1.55 1.85,1.55 -1.85,1.55 -1.85,-1.55
3D body "NL1008C-6.x_t": height 0.71, standoff 0, extent -1.25,-1 1.25,1

## PQFN16_MAAV011013_update2 [mm]
height 0.9
pads (17):
  rect 0.6x0.25 smd mask+0.05: 1(-1.35,0.75) 2(-1.35,0.25) 3(-1.35,-0.25) 4(-1.35,-0.75) 9(1.35,-0.75) 10(1.35,-0.25) 11(1.35,0.25) 12(1.35,0.75)
  rect 0.25x0.6 smd mask+0.05: 5(-0.75,-1.35) 6(-0.25,-1.35) 7(0.25,-1.35) 8(0.75,-1.35) 13(0.75,1.35) 14(0.25,1.35) 15(-0.25,1.35) 16(-0.75,1.35)
  rect 1.7x1.7 smd paste-10 mask+0.06: EP(0,0)
Top Overlay:
  circle w0.25: c-2.175,1.45 r0.125
  lines w0.2: -1.65,-1.25 -1.65,-1.65 -1.25,-1.65 ; -1.65,1.25 -1.65,1.65 -1.25,1.65 ; 1.25,-1.65 1.65,-1.65 1.65,-1.25 ; 1.25,1.65 1.65,1.65 1.65,1.25
Top Paste:
  region: 0.225,-0.225 -0.225,-0.225 -0.225,0.225 0.225,0.225
  region: -0.425,-0.225 -0.825,-0.225 -0.825,0.225 -0.425,0.225
  region: 0.225,0.425 0.225,0.825 -0.225,0.825 -0.225,0.425
  region: 0.225,-0.425 0.225,-0.825 -0.225,-0.825 -0.225,-0.425
  region: -0.425,0.425 -0.425,0.825 -0.825,0.825 -0.825,0.425
  region: -0.425,-0.425 -0.425,-0.825 -0.825,-0.825 -0.825,-0.425
  region: 0.425,-0.225 0.825,-0.225 0.825,0.225 0.425,0.225
  region: 0.425,-0.425 0.425,-0.825 0.825,-0.825 0.825,-0.425
  region: 0.425,0.425 0.425,0.825 0.825,0.825 0.825,0.425
Top Assembly:
  circle w0.05: c-1.1,1.1 r0.2
  lines w0.05: -1.5,-0.875 -1.52,-0.875 -1.52,-0.625 -1.5,-0.625 ; -1.5,-0.375 -1.52,-0.375 -1.52,-0.125 -1.5,-0.125 ; -1.5,0.125 -1.52,0.125 -1.52,0.375 -1.5,0.375 ; -1.5,0.625 -1.52,0.625 -1.52,0.875 -1.5,0.875 ; -0.875,-1.5 -0.875,-1.52 -0.625,-1.52 -0.625,-1.5 ; -0.875,1.5 -0.875,1.52 -0.625,1.52 -0.625,1.5 ; -0.375,-1.5 -0.375,-1.52 -0.125,-1.52 -0.125,-1.5 ; -0.375,1.5 -0.375,1.52 -0.125,1.52 -0.125,1.5 ; 0.125,-1.5 0.125,-1.52 0.375,-1.52 0.375,-1.5 ; 0.125,1.5 0.125,1.52 0.375,1.52 0.375,1.5 ; 0.625,-1.5 0.625,-1.52 0.875,-1.52 0.875,-1.5 ; 0.625,1.5 0.625,1.52 0.875,1.52 0.875,1.5 ; 1.5,-0.875 1.52,-0.875 1.52,-0.625 1.5,-0.625 ; 1.5,-0.375 1.52,-0.375 1.52,-0.125 1.5,-0.125 ; 1.5,0.125 1.52,0.125 1.52,0.375 1.5,0.375 ; 1.5,0.625 1.52,0.625 1.52,0.875 1.5,0.875 ; -1.5,-1.5 1.5,-1.5 1.5,1.5 -1.5,1.5 -1.5,-1.5
  text ".Designator" at -2.815,-0.283 h1.25
3D body "MAAV-011013.x_t": height 0.9, standoff -0.02, extent -1.52,-1.52 1.52,1.52

## QFN16_HMC1040_Update3 [mm] "QFN16 3mm x 3mm, 0.5mm pitch"
height 0.9
pads (17):
  rrect50% 0.32x0.32 smd mask+0.05: 1(-1.2,0.75) 5(-0.75,-1.2) 6(-0.25,-1.2) 7(0.25,-1.2) 8(0.75,-1.2) 12(1.2,0.75) 13(0.75,1.2) 14(0.25,1.2) 15(-0.25,1.2) 16(-0.75,1.2)
  rrect50% 0.32x0.29 smd mask+0.05: 2(-1.2,0.25) 3(-1.2,-0.25) 4(-1.2,-0.75) 9(1.2,-0.75) 10(1.2,-0.25) 11(1.2,0.25)
  rrect20% 1.5x1.5 smd paste-5: EP(0,0)
Top Layer:
  region: 1.54,-0.605 1.2,-0.605 1.2,-0.895 1.54,-0.895
  region: 1.54,-0.105 1.2,-0.105 1.2,-0.395 1.54,-0.395
  region: 1.54,0.395 1.2,0.395 1.2,0.105 1.54,0.105
  rectangle: -1.54,-0.895 -1.2,-0.605
  rectangle: -1.54,-0.395 -1.2,-0.105
  rectangle: -1.54,0.105 -1.2,0.395
  rectangle: -1.54,0.59 -1.2,0.91
  region: 0.59,1.54 0.59,1.2 0.91,1.2 0.91,1.54
  region: 0.09,1.54 0.09,1.2 0.41,1.2 0.41,1.54
  region: -0.41,1.54 -0.41,1.2 -0.09,1.2 -0.09,1.54
  region: -0.91,1.54 -0.91,1.2 -0.59,1.2 -0.59,1.54
  region: 1.54,0.91 1.2,0.91 1.2,0.59 1.54,0.59
  region: -0.59,-1.54 -0.59,-1.2 -0.91,-1.2 -0.91,-1.54
  region: -0.09,-1.54 -0.09,-1.2 -0.41,-1.2 -0.41,-1.54
  region: 0.41,-1.54 0.41,-1.2 0.09,-1.2 0.09,-1.54
  region: 0.91,-1.54 0.91,-1.2 0.59,-1.2 0.59,-1.54
Top Overlay:
  circle w0.25: c-2.25,1 r0.125
  lines w0.2: -1.75,-1.2 -1.75,-1.75 -1.2,-1.75 ; -1.75,1.2 -1.75,1.75 -1.2,1.75 ; 1.2,-1.75 1.75,-1.75 1.75,-1.2 ; 1.2,1.75 1.75,1.75 1.75,1.2
Top Paste:
  region: 1.54,0.395 1.19,0.395 1.19,0.105 1.54,0.105
  region: -0.1,-0.1 -0.7,-0.1 -0.7,-0.7 -0.1,-0.7
  region: 0.7,-0.1 0.1,-0.1 0.1,-0.7 0.7,-0.7
  region: -0.1,0.7 -0.7,0.7 -0.7,0.1 -0.1,0.1
  region: 0.7,0.7 0.1,0.7 0.1,0.1 0.7,0.1
  rectangle: -1.54,0.105 -1.19,0.395
  rectangle: -1.54,-0.395 -1.19,-0.105
  rectangle: -1.54,-0.895 -1.19,-0.605
  region: -0.59,-1.55 -0.59,-1.2 -0.91,-1.2 -0.91,-1.55
  region: -0.09,-1.55 -0.09,-1.2 -0.41,-1.2 -0.41,-1.55
  region: 0.41,-1.55 0.41,-1.2 0.09,-1.2 0.09,-1.55
  region: 0.91,-1.55 0.91,-1.2 0.59,-1.2 0.59,-1.55
  region: 1.54,-0.105 1.19,-0.105 1.19,-0.395 1.54,-0.395
  region: 1.55,0.91 1.2,0.91 1.2,0.59 1.55,0.59
  rectangle: -1.55,0.59 -1.2,0.91
  region: 0.09,1.55 0.09,1.2 0.41,1.2 0.41,1.55
  region: -0.41,1.55 -0.41,1.2 -0.09,1.2 -0.09,1.55
  region: -0.91,1.55 -0.91,1.2 -0.59,1.2 -0.59,1.55
  region: 0.59,1.55 0.59,1.2 0.91,1.2 0.91,1.55
  region: 1.55,0.91 1.2,0.91 1.2,0.59 1.55,0.59
  region: 1.54,-0.605 1.19,-0.605 1.19,-0.895 1.54,-0.895
  region: -0.09,-1.55 -0.09,-1.2 -0.41,-1.2 -0.41,-1.55
  region: 0.41,-1.55 0.41,-1.2 0.09,-1.2 0.09,-1.55
  region: 0.91,-1.55 0.91,-1.2 0.59,-1.2 0.59,-1.55
  region: -0.59,-1.55 -0.59,-1.2 -0.91,-1.2 -0.91,-1.55
Top Solder:
  region: 0,0.21 -0.82,0.21 -0.82,-0.21 0,-0.21
  region: -1.2,0.96 -1.7,0.96 -1.7,0.54 -1.2,0.54
  region: -1.2,0.445 -1.7,0.445 -1.7,0.055 -1.2,0.055
  region: -1.2,-0.055 -1.7,-0.055 -1.7,-0.445 -1.2,-0.445
  region: -1.2,-0.555 -1.7,-0.555 -1.7,-0.945 -1.2,-0.945
  region: -0.96,-1.2 -0.96,-1.7 -0.54,-1.7 -0.54,-1.2
  region: -0.46,-1.2 -0.46,-1.7 -0.04,-1.7 -0.04,-1.2
  region: 0.04,-1.2 0.04,-1.7 0.46,-1.7 0.46,-1.2
  region: 0.54,-1.2 0.54,-1.7 0.96,-1.7 0.96,-1.2
  rectangle: 1.2,-0.945 1.7,-0.555
  rectangle: 1.2,-0.445 1.7,-0.055
  rectangle: 1.2,0.055 1.7,0.445
  rectangle: 1.2,0.54 1.7,0.96
  region: 0.96,1.2 0.96,1.7 0.54,1.7 0.54,1.2
  region: 0.46,1.2 0.46,1.7 0.04,1.7 0.04,1.2
  region: -0.04,1.2 -0.04,1.7 -0.46,1.7 -0.46,1.2
  region: -0.54,1.2 -0.54,1.7 -0.96,1.7 -0.96,1.2
Top Assembly:
  circle w0.05: c-1.1,1.1 r0.2
  lines w0.05: -1.5,-0.865 -1.525,-0.865 -1.525,-0.635 -1.5,-0.635 ; -1.5,-0.365 -1.525,-0.365 -1.525,-0.135 -1.5,-0.135 ; -1.5,0.135 -1.525,0.135 -1.525,0.365 -1.5,0.365 ; -1.5,0.635 -1.525,0.635 -1.525,0.865 -1.5,0.865 ; -0.865,-1.5 -0.865,-1.525 -0.635,-1.525 -0.635,-1.5 ; -0.865,1.5 -0.865,1.525 -0.635,1.525 -0.635,1.5 ; -0.365,-1.5 -0.365,-1.525 -0.135,-1.525 -0.135,-1.5 ; -0.365,1.5 -0.365,1.525 -0.135,1.525 -0.135,1.5 ; 0.135,-1.5 0.135,-1.525 0.365,-1.525 0.365,-1.5 ; 0.135,1.5 0.135,1.525 0.365,1.525 0.365,1.5 ; 0.635,-1.5 0.635,-1.525 0.865,-1.525 0.865,-1.5 ; 0.635,1.5 0.635,1.525 0.865,1.525 0.865,1.5 ; 1.5,-0.865 1.525,-0.865 1.525,-0.635 1.5,-0.635 ; 1.5,-0.365 1.525,-0.365 1.525,-0.135 1.5,-0.135 ; 1.5,0.135 1.525,0.135 1.525,0.365 1.5,0.365 ; 1.5,0.635 1.525,0.635 1.525,0.865 1.5,0.865 ; -1.5,-1.5 -1.5,1.5 1.5,1.5 1.5,-1.5 -1.5,-1.5
  text ".Designator" at -3.378,-0.324 h1.5
3D body "QFN16_HMC1040.x_t": height 0.95, standoff 0, extent -1.525,-1.525 1.525,1.525

## QFN16_XX1000QT [mm] "QFN16 3mm x 3mm, 0.5mm pitch"
height 0.9
pads (17):
  oct 1x0.3 smd mask+0.04: 1(-1.5,0.75) 4(-1.5,-0.75) 9(1.5,-0.75) 12(1.5,0.75)
  rect 1x0.3 smd mask+0.04: 2(-1.5,0.25) 3(-1.5,-0.25) 10(1.5,-0.25) 11(1.5,0.25)
  oct 0.3x1 smd mask+0.04: 5(-0.75,-1.5) 8(0.75,-1.5) 13(0.75,1.5) 16(-0.75,1.5)
  rect 0.3x1 smd mask+0.04: 6(-0.25,-1.5) 7(0.25,-1.5) 14(0.25,1.5) 15(-0.25,1.5)
  rect 1.4x1.4 smd paste-5 mask+0.06: EP(0,0)
Top Overlay:
  circle w0.25: c-2.5,0.75 r0.125
  lines w0.2: -1.75,-1.25 -1.75,-1.75 -1.25,-1.75 ; -1.75,1.25 -1.75,1.75 -1.25,1.75 ; 1.25,-1.75 1.75,-1.75 1.75,-1.25 ; 1.25,1.75 1.75,1.75 1.75,1.25
Top Paste:
  region: -0.1,-0.1 -0.7,-0.1 -0.7,-0.7 -0.1,-0.7
  region: 0.7,-0.1 0.1,-0.1 0.1,-0.7 0.7,-0.7
  region: -0.1,0.7 -0.7,0.7 -0.7,0.1 -0.1,0.1
  region: 0.7,0.7 0.1,0.7 0.1,0.1 0.7,0.1
Top Assembly:
  circle w0.05: c-1.1,1.1 r0.2
  lines w0.05: -1.5,-0.875 -1.52,-0.875 -1.52,-0.625 -1.5,-0.625 ; -1.5,-0.375 -1.52,-0.375 -1.52,-0.125 -1.5,-0.125 ; -1.5,0.125 -1.52,0.125 -1.52,0.375 -1.5,0.375 ; -1.5,0.625 -1.52,0.625 -1.52,0.875 -1.5,0.875 ; -0.875,-1.5 -0.875,-1.52 -0.625,-1.52 -0.625,-1.5 ; -0.875,1.5 -0.875,1.52 -0.625,1.52 -0.625,1.5 ; -0.375,-1.5 -0.375,-1.52 -0.125,-1.52 -0.125,-1.5 ; -0.375,1.5 -0.375,1.52 -0.125,1.52 -0.125,1.5 ; 0.125,-1.5 0.125,-1.52 0.375,-1.52 0.375,-1.5 ; 0.125,1.5 0.125,1.52 0.375,1.52 0.375,1.5 ; 0.625,-1.5 0.625,-1.52 0.875,-1.52 0.875,-1.5 ; 0.625,1.5 0.625,1.52 0.875,1.52 0.875,1.5 ; 1.5,-0.875 1.52,-0.875 1.52,-0.625 1.5,-0.625 ; 1.5,-0.375 1.52,-0.375 1.52,-0.125 1.5,-0.125 ; 1.5,0.125 1.52,0.125 1.52,0.375 1.5,0.375 ; 1.5,0.625 1.52,0.625 1.52,0.875 1.5,0.875 ; -1.5,-1.5 -1.5,1.5 1.5,1.5 1.5,-1.5 -1.5,-1.5
  text ".Designator" at -2.815,-0.283 h1.25
Top Courtyard:
  lines w0.025: -2.25,-1.15 -2.25,1.15 -1.7,1.15 -1.7,1.7 -1.15,1.7 -1.15,2.25 1.15,2.25 1.15,1.7 1.7,1.7 1.7,1.15 2.25,1.15 2.25,-1.15 1.7,-1.15 1.7,-1.7 1.15,-1.7 1.15,-2.25 -1.15,-2.25 -1.15,-1.7 -1.7,-1.7 -1.7,-1.15 -2.25,-1.15
3D body "XX1000-QT.x_t": height 1, standoff 0.08, extent -1.52,-1.52 1.52,1.52